# EAGLE library part ADE7758 (library ADE7758)
Poly Phase Multifunction Energy Metering IC with Per Phase Information FEATURES Highly accurate; supports IEC 60687, IEC 61036, IEC 61268, IEC 62053-21, IEC 62053-22, and IEC 62053-23 Compatible with 3-phase/3-wire, 3-phase/4-wire, and other 3-phase services Less than 0.1% active energy error over a dynamic range of 1000 to 1 at 25°C Supplies active/reactive/apparent energy, voltage rms, current rms, and sampled waveform data Two pulse outputs, one for active power and the other selectable between reactive and apparent power with programmable frequency Digital power, phase, and rms offset calibration On-chip, user-programmable thresholds for line voltage SAG and overvoltage detections An on-chip, digital integrator enables direct interface-to-current sensors with di/dt output A PGA in the current channel allows direct interface to shunts and current transformers An SPI®-compatible serial interface with IRQ Proprietary ADCs and DSP provide high accuracy over large variations in environmental conditions and time Reference 2.4 V (drift 30 ppm/°C typical) with external overdrive capability Single 5 V supply, low power (70 mW typical)
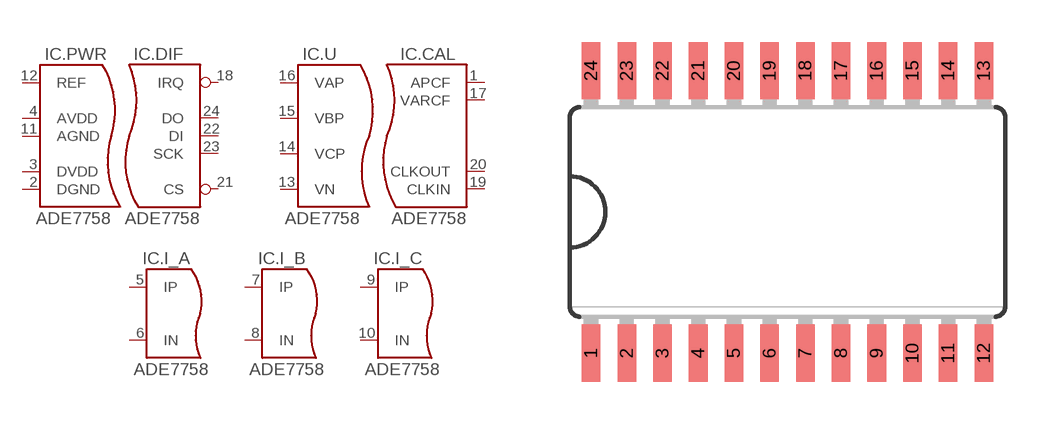
[diagram p0: symbol with the pads of SOIC24; footprint SOIC24]

Designator prefix IC; gates .I_A=I_SENSE .I_B=I_SENSE .I_C=I_SENSE .U=U_SENSE .DIF=DIG_IF .CAL=CAL .PWR=PWR

## ADE7758RW  [SOIC24]
1  .CAL:APCF  out
2  .PWR:DGND  pwr
3  .PWR:DVDD  pwr
4  .PWR:AVDD  pwr
5  .I_A:IP  in
6  .I_A:IN  in
7  .I_B:IP  in
8  .I_B:IN  in
9  .I_C:IP  in
10  .I_C:IN  in
11  .PWR:AGND  pwr
12  .PWR:REF
13  .U:VN  in
14  .U:VCP  in
15  .U:VBP  in
16  .U:VAP  in
17  .CAL:VARCF  out
18  .DIF:IRQ  out
19  .CAL:CLKIN  in
20  .CAL:CLKOUT  out
21  .DIF:CS  in
22  .DIF:DI  in
23  .DIF:SCK  in
24  .DIF:DO  out

## Footprint SOIC24 (pad centres in mm)
smd 0.66 x 2.032: 1 -6.985,-5.029; 2 -5.715,-5.029; 3 -4.445,-5.029; 4 -3.175,-5.029; 5 -1.905,-5.029; 6 -0.635,-5.029; 7 0.635,-5.029; 8 1.905,-5.029; 9 3.175,-5.029; 10 4.445,-5.029; 11 5.715,-5.029; 12 6.985,-5.029; 13 6.985,5.029; 14 5.715,5.029; 15 4.445,5.029; 16 3.175,5.029; 17 1.905,5.029; 18 0.635,5.029; 19 -0.635,5.029; 20 -1.905,5.029; 21 -3.175,5.029; 22 -4.445,5.029; 23 -5.715,5.029; 24 -6.985,5.029